# Altium schematic symbol library LM2676S.Schlib: 1 symbol
Pins are listed as number, name and electrical type; pins without a type are passive.

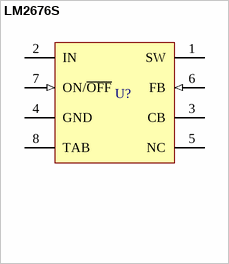
[diagram p0: symbol LM2676S]

## LM2676S
designator U?
SIMPLE SWITCHER® High Efficiency 3A Step-Down Voltage Regulator
pins: 1 SW (power), 2 IN (power), 3 CB, 4 GND (power), 5 NC, 6 FB (in), 7 ON/~{OFF} (in), 8 TAB (power)